# EAGLE library part 74LVC126D (library IC & Transistor)
SMD Quad Buffer 74LVC126D
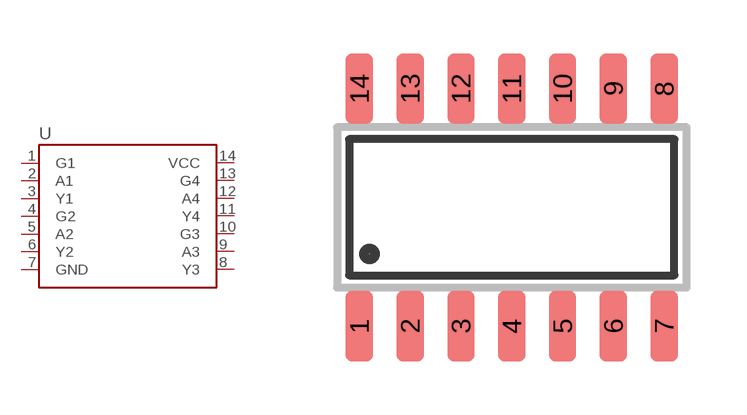
[diagram p45: symbol with the pads of SOIC-14N; footprint SOIC-14N]

Designator prefix -

## 74LVC126D_(SOIC_14N) (CYTRON-PC: S-IC-74LVC126D-SO14; DESC: S Quad Buffer 74LVC126D SO14; MF: NXP; MPN: 74LVC126A)  [SOIC-14N]
1  G1
2  A1
3  Y1
4  G2
5  A2
6  Y2
7  GND  pwr
8  Y3
9  A3
10  G3
11  Y4
12  A4
13  G4
14  VCC  pwr

## Footprint SOIC-14N (pad centres in mm)
Small Outline Integrated Circuit (SOIC) Narrow (JEDEC) SOIC Package Size: 8.65 x 3.90mm Lead Pitch: 1.27mm Created by: Idris Modified by: Wai Weng 1. Changed the orientation.
smd 0.686 x 1.778: 1 -3.81,-2.972; 2 -2.54,-2.972; 3 -1.27,-2.972; 4 0,-2.972; 5 1.27,-2.972; 6 2.54,-2.972; 7 3.81,-2.972; 8 3.81,2.972; 9 2.54,2.972; 10 1.27,2.972; 11 0,2.972; 12 -1.27,2.972; 13 -2.54,2.972; 14 -3.81,2.972